# Altium schematic symbol library Terminal Blocks.SchLib: 3 symbols
Pins are listed as number, name and electrical type; pins without a type are passive.

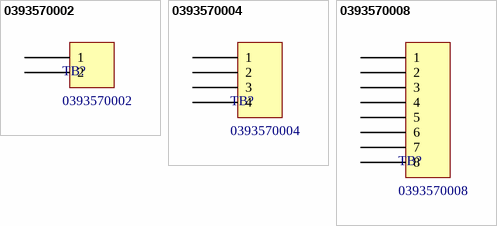
[diagram p0: symbols 0393570002 to 0393570008]

## 0393570002
designator TB?
pins: 1, 2

## 0393570004
designator TB?
pins: 1, 2, 3, 4

## 0393570008
designator TB?
pins: 1, 2, 3, 4, 5, 6, 7, 8